# Altium footprint library Board.PcbLib: 21 footprints (part 1 of 2)
Each footprint in its own frame and in the unit in brackets; x right, y up, seen from the top. Pads: shape width x height; smd on the part's side, far side on the other; paste and mask are expansions set on the pad; w line width, h text height; cw(c..) or ccw(c..) is an arc to the next point about the centre after c.
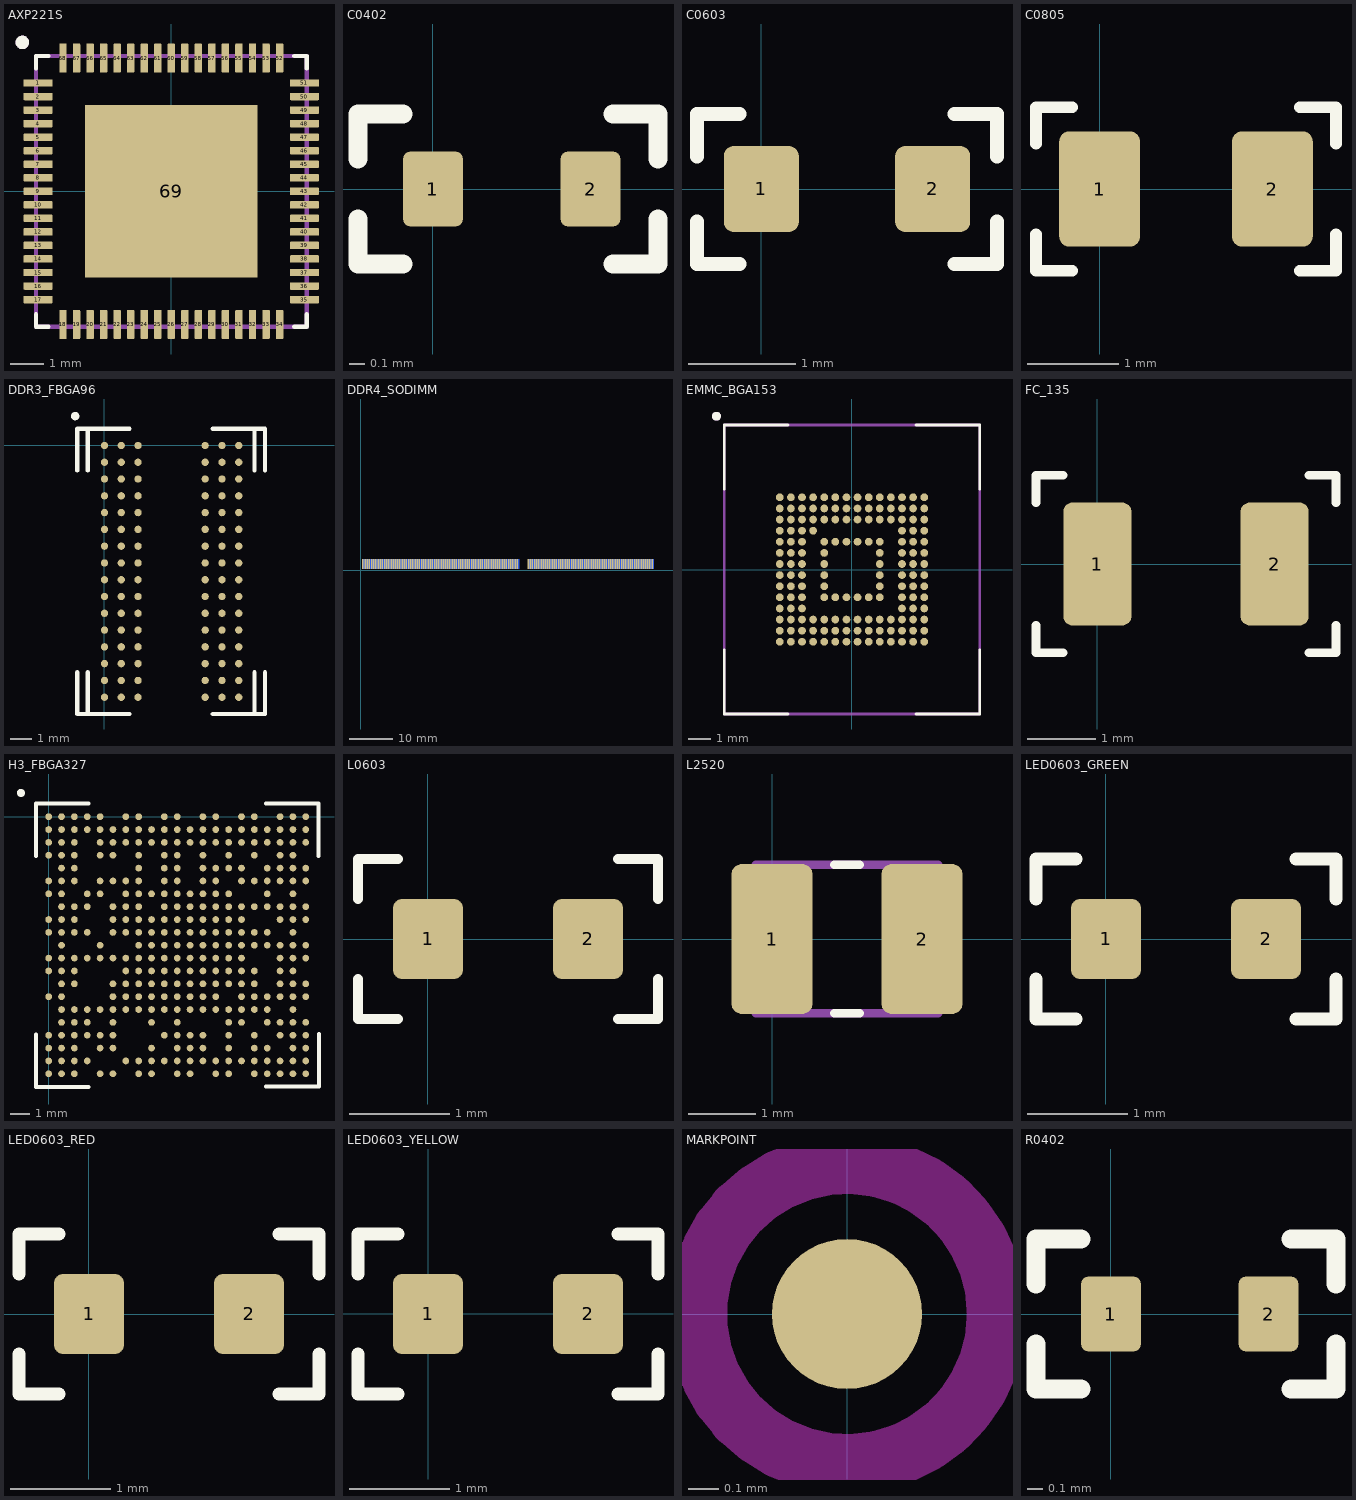
[diagram p0: the footprints below, top view; thin cyan lines are the x and y axes]

## AXP221S [mm]
pads (69):
  rrect25% 0.86x0.22 smd: 1(-3.935,3.2) 2(-3.935,2.8) 3(-3.935,2.4) 4(-3.935,2) 5(-3.935,1.6) 6(-3.935,1.2) 7(-3.935,0.8) 8(-3.935,0.4) 9(-3.935,0) 10(-3.935,-0.4) 11(-3.935,-0.8) 12(-3.935,-1.2) 13(-3.935,-1.6) 14(-3.935,-2) 15(-3.935,-2.4) 16(-3.935,-2.8) 17(-3.935,-3.2) 35(3.935,-3.2) 36(3.935,-2.8) 37(3.935,-2.4) 38(3.935,-2) 39(3.935,-1.6) 40(3.935,-1.2) 41(3.935,-0.8) 42(3.935,-0.4) 43(3.935,0) 44(3.935,0.4) 45(3.935,0.8) 46(3.935,1.2) 47(3.935,1.6) 48(3.935,2) 49(3.935,2.4) 50(3.935,2.8) 51(3.935,3.2)
  rrect25% 0.22x0.86 smd: 18(-3.2,-3.935) 19(-2.8,-3.935) 20(-2.4,-3.935) 21(-2,-3.935) 22(-1.6,-3.935) 23(-1.2,-3.935) 24(-0.8,-3.935) 25(-0.4,-3.935) 26(0,-3.935) 27(0.4,-3.935) 28(0.8,-3.935) 29(1.2,-3.935) 30(1.6,-3.935) 31(2,-3.935) 32(2.4,-3.935) 33(2.8,-3.935) 34(3.2,-3.935) 52(3.2,3.935) 53(2.8,3.935) 54(2.4,3.935) 55(2,3.935) 56(1.6,3.935) 57(1.2,3.935) 58(0.8,3.935) 59(0.4,3.935) 60(0,3.935) 61(-0.4,3.935) 62(-0.8,3.935) 63(-1.2,3.935) 64(-1.6,3.935) 65(-2,3.935) 66(-2.4,3.935) 67(-2.8,3.935) 68(-3.2,3.935)
  rect 5.1x5.1 smd paste-4: 69(0,0)
Top Overlay:
  circle w0.2: c-4.4,4.4 r0.1
  lines w0.127: -4,-3.63 -4,-4 -3.63,-4 ; -4,3.63 -4,4 -3.63,4 ; 3.63,-4 4,-4 4,-3.63 ; 3.63,4 4,4 4,3.63
Top Paste:
  region: -0.47,-2.08 -2.08,-2.08 -2.08,-0.47 -0.47,-0.47
  region: 2.08,-2.08 0.47,-2.08 0.47,-0.47 2.08,-0.47
  region: 2.08,0.47 0.47,0.47 0.47,2.08 2.08,2.08
  region: -0.47,0.47 -2.08,0.47 -2.08,2.08 -0.47,2.08
Mechanical 13:
  circle w0.2: c-4.4,4.4 r0.1
  lines w0.127: -4,-4 -4,4 4,4 4,-4 -4,-4
3D body "QFN68 8x8.STEP": height 0.88, standoff 0, extent -4.001,-4.001 4.001,4.001

## C0402 [mm]
pads (2):
  rrect25% 0.4x0.5 smd: 1(0,0) 2(1.05,0)
Top Overlay:
  lines w0.127: -0.5,-0.2 -0.5,-0.5 -0.2,-0.5 ; -0.5,0.2 -0.5,0.5 -0.2,0.5 ; 1.2,-0.5 1.5,-0.5 1.5,-0.2 ; 1.2,0.5 1.5,0.5 1.5,0.2
3D body "C 0402.STEP": height 0.53, standoff 0.01, extent 0.025,-0.26 1.025,0.26

## C0603 [mm]
pads (2):
  rrect25% 0.7x0.8 smd: 1(0,0) 2(1.6,0)
Top Overlay:
  lines w0.127: -0.6,-0.3 -0.6,-0.7 -0.2,-0.7 ; -0.6,0.3 -0.6,0.7 -0.2,0.7 ; 1.8,-0.7 2.2,-0.7 2.2,-0.3 ; 1.8,0.7 2.2,0.7 2.2,0.3
3D body "C 0603.STEP": height 0.81, standoff -0.01, extent 0,-0.41 1.6,0.41

## C0805 [mil]
pads (2):
  rrect25% 35x50 smd: 1(0,0) 2(74.8,0)
Top Overlay:
  lines w5: -27.56,-19.68 -27.56,-35.43 -11.81,-35.43 ; -27.56,19.68 -27.56,35.43 -11.81,35.43 ; 86.61,-35.43 102.36,-35.43 102.36,-19.68 ; 86.61,35.43 102.36,35.43 102.36,19.68
3D body: height 19.68, standoff 0, extent -3.94,-23.62 78.74,23.62

## DDR3_FBGA96 [mm]
pads (96):
  round 0.35 smd mask+0.05: A1(0,0) A2(0.8,0) A3(1.6,0) A7(4.8,0) A8(5.6,0) A9(6.4,0) B1(0,-0.8) B2(0.8,-0.8) B3(1.6,-0.8) B7(4.8,-0.8) B8(5.6,-0.8) B9(6.4,-0.8) C1(0,-1.6) C2(0.8,-1.6) C3(1.6,-1.6) C7(4.8,-1.6) C8(5.6,-1.6) C9(6.4,-1.6) D1(0,-2.4) D2(0.8,-2.4) D3(1.6,-2.4) D7(4.8,-2.4) D8(5.6,-2.4) D9(6.4,-2.4) E1(0,-3.2) E2(0.8,-3.2) E3(1.6,-3.2) E7(4.8,-3.2) E8(5.6,-3.2) E9(6.4,-3.2) F1(0,-4) F2(0.8,-4) F3(1.6,-4) F7(4.8,-4) F8(5.6,-4) F9(6.4,-4) G1(0,-4.8) G2(0.8,-4.8) G3(1.6,-4.8) G7(4.8,-4.8) G8(5.6,-4.8) G9(6.4,-4.8) H1(0,-5.6) H2(0.8,-5.6) H3(1.6,-5.6) H7(4.8,-5.6) H8(5.6,-5.6) H9(6.4,-5.6) J1(0,-6.4) J2(0.8,-6.4) J3(1.6,-6.4) J7(4.8,-6.4) J8(5.6,-6.4) J9(6.4,-6.4) K1(0,-7.2) K2(0.8,-7.2) K3(1.6,-7.2) K7(4.8,-7.2) K8(5.6,-7.2) K9(6.4,-7.2) L1(0,-8) L2(0.8,-8) L3(1.6,-8) L7(4.8,-8) L8(5.6,-8) L9(6.4,-8) M1(0,-8.8) M2(0.8,-8.8) M3(1.6,-8.8) M7(4.8,-8.8) M8(5.6,-8.8) M9(6.4,-8.8) N1(0,-9.6) N2(0.8,-9.6) N3(1.6,-9.6) N7(4.8,-9.6) N8(5.6,-9.6) N9(6.4,-9.6) P1(0,-10.4) P2(0.8,-10.4) P3(1.6,-10.4) P7(4.8,-10.4) P8(5.6,-10.4) P9(6.4,-10.4) R1(0,-11.2) R2(0.8,-11.2) R3(1.6,-11.2) R7(4.8,-11.2) R8(5.6,-11.2) R9(6.4,-11.2) T1(0,-12) T2(0.8,-12) T3(1.6,-12) T7(4.8,-12) T8(5.6,-12) T9(6.4,-12)
Top Overlay:
  circle w0.2: c-1.4,1.4 r0.1
  lines w0.2: -1.3,-10.813 -1.3,-12.8 -0.8,-12.8 ; -1.3,-1.188 -1.3,0.8 -0.8,0.8 ; -0.8,-10.813 -0.8,-12.8 ; -0.8,-1.188 -0.8,0.8 ; 1.187,-12.8 -0.8,-12.8 ; 1.187,0.8 -0.8,0.8 ; 5.162,-12.8 7.15,-12.8 ; 5.163,0.8 7.15,0.8 ; 7.15,-10.813 7.15,-12.8 ; 7.15,-1.188 7.15,0.8 ; 7.65,-10.813 7.65,-12.8 7.15,-12.8 ; 7.65,-1.188 7.65,0.8 7.15,0.8
3D body "DRAM.STEP": height 0.86, standoff 0, extent -1.3,-13 7.7,1

## DDR4_SODIMM [mm]
pads (260):
  rect 0.35x2.25 smd paste-0.75 mask+0.3: 1(0.474,1.422) 3(0.974,1.422) 5(1.474,1.422) 7(1.974,1.422) 9(2.474,1.422) 11(2.974,1.422) 13(3.474,1.422) 15(3.974,1.422) 17(4.474,1.422) 19(4.974,1.422) 21(5.474,1.422) 23(5.974,1.422) 25(6.474,1.422) 27(6.974,1.422) 29(7.474,1.422) 31(7.974,1.422) 33(8.474,1.422) 35(8.974,1.422) 37(9.474,1.422) 39(9.974,1.422) 41(10.474,1.422) 43(10.974,1.422) 45(11.474,1.422) 47(11.974,1.422) 49(12.474,1.422) 51(12.974,1.422) 53(13.474,1.422) 55(13.974,1.422) 57(14.474,1.422) 59(14.974,1.422) 61(15.474,1.422) 63(15.974,1.422) 65(16.474,1.422) 67(16.974,1.422) 69(17.474,1.422) 71(17.974,1.422) 73(18.474,1.422) 75(18.974,1.422) 77(19.474,1.422) 79(19.974,1.422) 81(20.474,1.422) 83(20.974,1.422) 85(21.474,1.422) 87(21.974,1.422) 89(22.474,1.422) 91(22.974,1.422) 93(23.474,1.422) 95(23.974,1.422) 97(24.474,1.422) 99(24.974,1.422) 101(25.474,1.422) 103(25.974,1.422) 105(26.474,1.422) 107(26.974,1.422) 109(27.474,1.422) 111(27.974,1.422) 113(28.474,1.422) 115(28.974,1.422) 117(29.474,1.422) 119(29.974,1.422) 121(30.474,1.422) 123(30.974,1.422) 125(31.474,1.422) 127(31.974,1.422) 129(32.474,1.422) 131(32.974,1.422) 133(33.474,1.422) 135(33.974,1.422) 137(34.474,1.422) 139(34.974,1.422) 141(35.474,1.422) 143(35.974,1.422) 145(38.474,1.422) 147(38.974,1.422) 149(39.474,1.422) 151(39.974,1.422) 153(40.474,1.422) 155(40.974,1.422) 157(41.474,1.422) 159(41.974,1.422) 161(42.474,1.422) 163(42.974,1.422) 165(43.474,1.422) 167(43.974,1.422) 169(44.474,1.422) 171(44.974,1.422) 173(45.474,1.422) 175(45.974,1.422) 177(46.474,1.422) 179(46.974,1.422) 181(47.474,1.422) 183(47.974,1.422) 185(48.474,1.422) 187(48.974,1.422) 189(49.474,1.422) 191(49.974,1.422) 193(50.474,1.422) 195(50.974,1.422) 197(51.474,1.422) 199(51.974,1.422) 201(52.474,1.422) 203(52.974,1.422) 205(53.474,1.422) 207(53.974,1.422) 209(54.474,1.422) 211(54.974,1.422) 213(55.474,1.422) 215(55.974,1.422) 217(56.474,1.422) 219(56.974,1.422) 221(57.474,1.422) 223(57.974,1.422) 225(58.474,1.422) 227(58.974,1.422) 229(59.474,1.422) 231(59.974,1.422) 233(60.474,1.422) 235(60.974,1.422) 237(61.474,1.422) 239(61.974,1.422) 241(62.474,1.422) 243(62.974,1.422) 245(63.474,1.422) 247(63.974,1.422) 249(64.474,1.422) 251(64.974,1.422) 253(65.474,1.422) 255(65.974,1.422) 257(66.474,1.422) 259(66.974,1.422)
  rect 0.35x2.25 smd far side paste-0.75 mask+0.3: 2(0.724,1.422) 4(1.224,1.422) 6(1.724,1.422) 8(2.224,1.422) 10(2.724,1.422) 12(3.224,1.422) 14(3.724,1.422) 16(4.224,1.422) 18(4.724,1.422) 20(5.224,1.422) 22(5.724,1.422) 24(6.224,1.422) 26(6.724,1.422) 28(7.224,1.422) 30(7.724,1.422) 32(8.224,1.422) 34(8.724,1.422) 36(9.224,1.422) 38(9.724,1.422) 40(10.224,1.422) 42(10.724,1.422) 44(11.224,1.422) 46(11.724,1.422) 48(12.224,1.422) 50(12.724,1.422) 52(13.224,1.422) 54(13.724,1.422) 56(14.224,1.422) 58(14.724,1.422) 60(15.224,1.422) 62(15.724,1.422) 64(16.224,1.422) 66(16.724,1.422) 68(17.224,1.422) 70(17.724,1.422) 72(18.224,1.422) 74(18.724,1.422) 76(19.224,1.422) 78(19.724,1.422) 80(20.224,1.422) 82(20.724,1.422) 84(21.224,1.422) 86(21.724,1.422) 88(22.224,1.422) 90(22.724,1.422) 92(23.224,1.422) 94(23.724,1.422) 96(24.224,1.422) 98(24.724,1.422) 100(25.224,1.422) 102(25.724,1.422) 104(26.224,1.422) 106(26.724,1.422) 108(27.224,1.422) 110(27.724,1.422) 112(28.224,1.422) 114(28.724,1.422) 116(29.224,1.422) 118(29.724,1.422) 120(30.224,1.422) 122(30.724,1.422) 124(31.224,1.422) 126(31.724,1.422) 128(32.224,1.422) 130(32.724,1.422) 132(33.224,1.422) 134(33.724,1.422) 136(34.224,1.422) 138(34.724,1.422) 140(35.224,1.422) 142(35.724,1.422) 144(36.224,1.422) 146(38.724,1.422) 148(39.224,1.422) 150(39.724,1.422) 152(40.224,1.422) 154(40.724,1.422) 156(41.224,1.422) 158(41.724,1.422) 160(42.224,1.422) 162(42.724,1.422) 164(43.224,1.422) 166(43.724,1.422) 168(44.224,1.422) 170(44.724,1.422) 172(45.224,1.422) 174(45.724,1.422) 176(46.224,1.422) 178(46.724,1.422) 180(47.224,1.422) 182(47.724,1.422) 184(48.224,1.422) 186(48.724,1.422) 188(49.224,1.422) 190(49.724,1.422) 192(50.224,1.422) 194(50.724,1.422) 196(51.224,1.422) 198(51.724,1.422) 200(52.224,1.422) 202(52.724,1.422) 204(53.224,1.422) 206(53.724,1.422) 208(54.224,1.422) 210(54.724,1.422) 212(55.224,1.422) 214(55.724,1.422) 216(56.224,1.422) 218(56.724,1.422) 220(57.224,1.422) 222(57.724,1.422) 224(58.224,1.422) 226(58.724,1.422) 228(59.224,1.422) 230(59.724,1.422) 232(60.224,1.422) 234(60.724,1.422) 236(61.224,1.422) 238(61.724,1.422) 240(62.224,1.422) 242(62.724,1.422) 244(63.224,1.422) 246(63.724,1.422) 248(64.224,1.422) 250(64.724,1.422) 252(65.224,1.422) 254(65.724,1.422) 256(66.224,1.422) 258(66.724,1.422) 260(67.224,1.422)

## EMMC_BGA153 [mm]
pads (153):
  round 0.35 smd mask+0.025: A1(-3.25,3.25) A2(-2.75,3.25) A3(-2.25,3.25) A4(-1.75,3.25) A5(-1.25,3.25) A6(-0.75,3.25) A7(-0.25,3.25) A8(0.25,3.25) A9(0.75,3.25) A10(1.25,3.25) A11(1.75,3.25) A12(2.25,3.25) A13(2.75,3.25) A14(3.25,3.25) B1(-3.25,2.75) B2(-2.75,2.75) B3(-2.25,2.75) B4(-1.75,2.75) B5(-1.25,2.75) B6(-0.75,2.75) B7(-0.25,2.75) B8(0.25,2.75) B9(0.75,2.75) B10(1.25,2.75) B11(1.75,2.75) B12(2.25,2.75) B13(2.75,2.75) B14(3.25,2.75) C1(-3.25,2.25) C2(-2.75,2.25) C3(-2.25,2.25) C4(-1.75,2.25) C5(-1.25,2.25) C6(-0.75,2.25) C7(-0.25,2.25) C8(0.25,2.25) C9(0.75,2.25) C10(1.25,2.25) C11(1.75,2.25) C12(2.25,2.25) C13(2.75,2.25) C14(3.25,2.25) D1(-3.25,1.75) D2(-2.75,1.75) D3(-2.25,1.75) D4(-1.75,1.75) D12(2.25,1.75) D13(2.75,1.75) D14(3.25,1.75) E1(-3.25,1.25) E2(-2.75,1.25) E3(-2.25,1.25) E5(-1.25,1.25) E6(-0.75,1.25) E7(-0.25,1.25) E8(0.25,1.25) E9(0.75,1.25) E10(1.25,1.25) E12(2.25,1.25) E13(2.75,1.25) E14(3.25,1.25) F1(-3.25,0.75) F2(-2.75,0.75) F3(-2.25,0.75) F5(-1.25,0.75) F10(1.25,0.75) F12(2.25,0.75) F13(2.75,0.75) F14(3.25,0.75) G1(-3.25,0.25) G2(-2.75,0.25) G3(-2.25,0.25) G5(-1.25,0.25) G10(1.25,0.25) G12(2.25,0.25) G13(2.75,0.25) G14(3.25,0.25) H1(-3.25,-0.25) H2(-2.75,-0.25) H3(-2.25,-0.25) H5(-1.25,-0.25) H10(1.25,-0.25) H12(2.25,-0.25) H13(2.75,-0.25) H14(3.25,-0.25) J1(-3.25,-0.75) J2(-2.75,-0.75) J3(-2.25,-0.75) J5(-1.25,-0.75) J10(1.25,-0.75) J12(2.25,-0.75) J13(2.75,-0.75) J14(3.25,-0.75) K1(-3.25,-1.25) K2(-2.75,-1.25) K3(-2.25,-1.25) K5(-1.25,-1.25) K6(-0.75,-1.25) K7(-0.25,-1.25) K8(0.25,-1.25) K9(0.75,-1.25) K10(1.25,-1.25) K12(2.25,-1.25) K13(2.75,-1.25) K14(3.25,-1.25) L1(-3.25,-1.75) L2(-2.75,-1.75) L3(-2.25,-1.75) L12(2.25,-1.75) L13(2.75,-1.75) L14(3.25,-1.75) M1(-3.25,-2.25) M2(-2.75,-2.25) M3(-2.25,-2.25) M4(-1.75,-2.25) M5(-1.25,-2.25) M6(-0.75,-2.25) M7(-0.25,-2.25) M8(0.25,-2.25) M9(0.75,-2.25) M10(1.25,-2.25) M11(1.75,-2.25) M12(2.25,-2.25) M13(2.75,-2.25) M14(3.25,-2.25) N1(-3.25,-2.75) N2(-2.75,-2.75) N3(-2.25,-2.75) N4(-1.75,-2.75) N5(-1.25,-2.75) N6(-0.75,-2.75) N7(-0.25,-2.75) N8(0.25,-2.75) N9(0.75,-2.75) N10(1.25,-2.75) N11(1.75,-2.75) N12(2.25,-2.75) N13(2.75,-2.75) N14(3.25,-2.75) P1(-3.25,-3.25) P2(-2.75,-3.25) P3(-2.25,-3.25) P4(-1.75,-3.25) P5(-1.25,-3.25) P6(-0.75,-3.25) P7(-0.25,-3.25) P8(0.25,-3.25) P9(0.75,-3.25) P10(1.25,-3.25) P11(1.75,-3.25) P12(2.25,-3.25) P13(2.75,-3.25) P14(3.25,-3.25)
Top Overlay:
  circle w0.2: c-6.1,6.9 r0.1
  lines w0.127: -5.75,-3.625 -5.75,-6.5 -2.875,-6.5 ; -5.75,3.625 -5.75,6.5 -2.875,6.5 ; 2.875,-6.5 5.75,-6.5 5.75,-3.625 ; 2.875,6.5 5.75,6.5 5.75,3.625
Mechanical 13:
  circle w0.2: c-6.1,6.9 r0.1
  lines w0.127: -5.75,-6.5 -5.75,6.5 5.75,6.5 5.75,-6.5 -5.75,-6.5
3D body "step_temp.STEP": height 1, standoff 0, extent -5.75,-6.5 5.75,6.5

## FC_135 [mm]
pads (2):
  rrect25% 1x1.8 smd: 1(0,0) 2(2.6,0)
Top Overlay:
  lines w0.127: -0.9,-0.9 -0.9,-1.3 -0.5,-1.3 ; -0.9,0.9 -0.9,1.3 -0.5,1.3 ; 3.1,-1.3 3.5,-1.3 3.5,-0.9 ; 3.1,1.3 3.5,1.3 3.5,0.9
3D body "OSC 3215-2.STEP": height 0.61, standoff -0.01, extent -0.3,-0.75 2.9,0.75

## H3_FBGA327 [mm]
pads (347):
  round 0.34 smd mask+0.05: A1(0,0) A2(0.65,0) A3(1.3,0) A4(1.95,0) A5(2.6,0) A7(3.9,0) A8(4.55,0) A10(5.85,0) A11(6.5,0) A13(7.8,0) A14(8.45,0) A16(9.75,0) A17(10.4,0) A19(11.7,0) A20(12.35,0) A21(13,0) AA1(0,-13) AA2(0.65,-13) AA3(1.3,-13) AA5(2.6,-13) AA6(3.25,-13) AA8(4.55,-13) AA9(5.2,-13) AA11(6.5,-13) AA12(7.15,-13) AA14(8.45,-13) AA15(9.1,-13) AA17(10.4,-13) AA18(11.05,-13) AA19(11.7,-13) AA20(12.35,-13) AA21(13,-13) B1(0,-0.65) B2(0.65,-0.65) B3(1.3,-0.65) B4(1.95,-0.65) B5(2.6,-0.65) B6(3.25,-0.65) B7(3.9,-0.65) B8(4.55,-0.65) B9(5.2,-0.65) B10(5.85,-0.65) B11(6.5,-0.65) B12(7.15,-0.65) B13(7.8,-0.65) B14(8.45,-0.65) B15(9.1,-0.65) B16(9.75,-0.65) B17(10.4,-0.65) B18(11.05,-0.65) B19(11.7,-0.65) B20(12.35,-0.65) B21(13,-0.65) C1(0,-1.3) C2(0.65,-1.3) C3(1.3,-1.3) C5(2.6,-1.3) C6(3.25,-1.3) C7(3.9,-1.3) C8(4.55,-1.3) C9(5.2,-1.3) C10(5.85,-1.3) C11(6.5,-1.3) C12(7.15,-1.3) C13(7.8,-1.3) C14(8.45,-1.3) C15(9.1,-1.3) C16(9.75,-1.3) C17(10.4,-1.3) C18(11.05,-1.3) C19(11.7,-1.3) C20(12.35,-1.3) C21(13,-1.3) D1(0,-1.95) D2(0.65,-1.95) D3(1.3,-1.95) D5(2.6,-1.95) D6(3.25,-1.95) D8(4.55,-1.95) D10(5.85,-1.95) D11(6.5,-1.95) D13(7.8,-1.95) D15(9.1,-1.95) D17(10.4,-1.95) D19(11.7,-1.95) D20(12.35,-1.95) E2(0.65,-2.6) E3(1.3,-2.6) E8(4.55,-2.6) E10(5.85,-2.6) E11(6.5,-2.6) E13(7.8,-2.6) E14(8.45,-2.6) E15(9.1,-2.6) E16(9.75,-2.6) E18(11.05,-2.6) E19(11.7,-2.6) E20(12.35,-2.6) E21(13,-2.6) F1(0,-3.25) F2(0.65,-3.25) F3(1.3,-3.25) F5(2.6,-3.25) F6(3.25,-3.25) F7(3.9,-3.25) F8(4.55,-3.25) F10(5.85,-3.25) F11(6.5,-3.25) F13(7.8,-3.25) F14(8.45,-3.25) F16(9.75,-3.25) F17(10.4,-3.25) F18(11.05,-3.25) F19(11.7,-3.25) F20(12.35,-3.25) F21(13,-3.25) G1(0,-3.9) G2(0.65,-3.9) G4(1.95,-3.9) G5(2.6,-3.9) G7(3.9,-3.9) G8(4.55,-3.9) G9(5.2,-3.9) G10(5.85,-3.9) G11(6.5,-3.9) G12(7.15,-3.9) G13(7.8,-3.9) G14(8.45,-3.9) G15(9.1,-3.9) G18(11.05,-3.9) G20(12.35,-3.9) H2(0.65,-4.55) H3(1.3,-4.55) H4(1.95,-4.55) H6(3.25,-4.55) H7(3.9,-4.55) H8(4.55,-4.55) H10(5.85,-4.55) H11(6.5,-4.55) H12(7.15,-4.55) H13(7.8,-4.55) H14(8.45,-4.55) H15(9.1,-4.55) H16(9.75,-4.55) H17(10.4,-4.55) H18(11.05,-4.55) H19(11.7,-4.55) H20(12.35,-4.55) H21(13,-4.55) J1(0,-5.2) J2(0.65,-5.2) J3(1.3,-5.2) J6(3.25,-5.2) J7(3.9,-5.2) J8(4.55,-5.2) J9(5.2,-5.2) J10(5.85,-5.2) J11(6.5,-5.2) J12(7.15,-5.2) J13(7.8,-5.2) J14(8.45,-5.2) J15(9.1,-5.2) J16(9.75,-5.2) J19(11.7,-5.2) J20(12.35,-5.2) J21(13,-5.2) K1(0,-5.85) K2(0.65,-5.85) K3(1.3,-5.85) K4(1.95,-5.85) K6(3.25,-5.85) K7(3.9,-5.85) K8(4.55,-5.85) K9(5.2,-5.85) K10(5.85,-5.85) K11(6.5,-5.85) K12(7.15,-5.85) K13(7.8,-5.85) K14(8.45,-5.85) K15(9.1,-5.85) K16(9.75,-5.85) K17(10.4,-5.85) K18(11.05,-5.85) K20(12.35,-5.85) L2(0.65,-6.5) L5(2.6,-6.5) L8(4.55,-6.5) L9(5.2,-6.5) L10(5.85,-6.5) L11(6.5,-6.5) L12(7.15,-6.5) L13(7.8,-6.5) L14(8.45,-6.5) L15(9.1,-6.5) L16(9.75,-6.5) L17(10.4,-6.5) L18(11.05,-6.5) L19(11.7,-6.5) L20(12.35,-6.5) L21(13,-6.5) M1(0,-7.15) M2(0.65,-7.15) M3(1.3,-7.15) M4(1.95,-7.15) M5(2.6,-7.15) M6(3.25,-7.15) M7(3.9,-7.15) M8(4.55,-7.15) M9(5.2,-7.15) M10(5.85,-7.15) M11(6.5,-7.15) M12(7.15,-7.15) M13(7.8,-7.15) M14(8.45,-7.15) M15(9.1,-7.15) M16(9.75,-7.15) M19(11.7,-7.15) M20(12.35,-7.15) M21(13,-7.15) N1(0,-7.8) N2(0.65,-7.8) N3(1.3,-7.8) N7(3.9,-7.8) N8(4.55,-7.8) N9(5.2,-7.8) N10(5.85,-7.8) N11(6.5,-7.8) N12(7.15,-7.8) N13(7.8,-7.8) N14(8.45,-7.8) N15(9.1,-7.8) N16(9.75,-7.8) N17(10.4,-7.8) N19(11.7,-7.8) N20(12.35,-7.8) P2(0.65,-8.45) P3(1.3,-8.45) P6(3.25,-8.45) P7(3.9,-8.45) P8(4.55,-8.45) P9(5.2,-8.45) P10(5.85,-8.45) P11(6.5,-8.45) P12(7.15,-8.45) P13(7.8,-8.45) P14(8.45,-8.45) P15(9.1,-8.45) P16(9.75,-8.45) P17(10.4,-8.45) P19(11.7,-8.45) P20(12.35,-8.45) P21(13,-8.45) R1(0,-9.1) R2(0.65,-9.1) R6(3.25,-9.1) R7(3.9,-9.1) R8(4.55,-9.1) R9(5.2,-9.1) R10(5.85,-9.1) R11(6.5,-9.1) R12(7.15,-9.1) R13(7.8,-9.1) R14(8.45,-9.1) R16(9.75,-9.1) R17(10.4,-9.1) R18(11.05,-9.1) R19(11.7,-9.1) R20(12.35,-9.1) R21(13,-9.1) T2(0.65,-9.75) T3(1.3,-9.75) T4(1.95,-9.75) T5(2.6,-9.75) T6(3.25,-9.75) T7(3.9,-9.75) T8(4.55,-9.75) T9(5.2,-9.75) T10(5.85,-9.75) T11(6.5,-9.75) T12(7.15,-9.75) T13(7.8,-9.75) T14(8.45,-9.75) T15(9.1,-9.75) T16(9.75,-9.75) T17(10.4,-9.75) T18(11.05,-9.75) T20(12.35,-9.75) U2(0.65,-10.4) U3(1.3,-10.4) U4(1.95,-10.4) U6(3.25,-10.4) U9(5.2,-10.4) U11(6.5,-10.4) U15(9.1,-10.4) U16(9.75,-10.4) U18(11.05,-10.4) U19(11.7,-10.4) U20(12.35,-10.4) U21(13,-10.4) V1(0,-11.05) V2(0.65,-11.05) V3(1.3,-11.05) V4(1.95,-11.05) V5(2.6,-11.05) V6(3.25,-11.05) V10(5.85,-11.05) V11(6.5,-11.05) V12(7.15,-11.05) V13(7.8,-11.05) V15(9.1,-11.05) V17(10.4,-11.05) V19(11.7,-11.05) V20(12.35,-11.05) V21(13,-11.05) W1(0,-11.7) W2(0.65,-11.7) W3(1.3,-11.7) W5(2.6,-11.7) W6(3.25,-11.7) W9(5.2,-11.7) W11(6.5,-11.7) W12(7.15,-11.7) W13(7.8,-11.7) W15(9.1,-11.7) W17(10.4,-11.7) W18(11.05,-11.7) W20(12.35,-11.7) W21(13,-11.7) Y1(0,-12.35) Y2(0.65,-12.35) Y3(1.3,-12.35) Y4(1.95,-12.35) Y7(3.9,-12.35) Y8(4.55,-12.35) Y9(5.2,-12.35) Y10(5.85,-12.35) Y11(6.5,-12.35) Y12(7.15,-12.35) Y13(7.8,-12.35) Y14(8.45,-12.35) Y15(9.1,-12.35) Y16(9.75,-12.35) Y17(10.4,-12.35) Y18(11.05,-12.35) Y19(11.7,-12.35) Y20(12.35,-12.35) Y21(13,-12.35)
Top Overlay:
  circle w0.2: c-1.4,1.2 r0.1
  lines w0.2: -0.65,-13.65 -0.65,-11 ; -0.65,-2 -0.65,0.65 ; -0.636,-13.669 2.014,-13.669 ; -0.631,0.664 2.019,0.664 ; 10.986,0.669 13.636,0.669 ; 11,-13.65 13.669,-13.65 13.669,-10.986 ; 13.65,-2 13.65,0.65
Top Paste:
  text "1 2 3 4 5 6 7 8 9 0 1 2 3 4 5 6 7 8 9 0 1" at -0.127,1.016 h0.33
  text "A B C D E F G H J K L M N P R T U V W Y AA" at -1.397,0.127 h0.33
3D body "ALLWINNER_H3.STEP": height 0.9, standoff 0, extent -0.5,-13.5 13.5,0.5

## L0603 [mm]
pads (2):
  rrect25% 0.7x0.8 smd: 1(0,0) 2(1.6,0)
Top Overlay:
  lines w0.1: -0.7,-0.4 -0.7,-0.8 -0.3,-0.8 ; -0.7,0.4 -0.7,0.8 -0.3,0.8 ; 1.9,-0.8 2.3,-0.8 2.3,-0.4 ; 1.9,0.8 2.3,0.8 2.3,0.4
3D body "0603.STEP": height 0.8, standoff 0, extent -0.023,-0.4 1.577,0.4

## L2520 [mm]
pads (2):
  rrect25% 1.2x2.22 smd: 1(0,0) 2(2.22,0)
Top Overlay:
  lines w0.127: 0.92,-1.1 1.3,-1.1 ; 0.92,1.1 1.3,1.1
Mechanical 13:
  lines w0.127: -0.24,-1.1 -0.24,1.1 2.46,1.1 2.46,-1.1 -0.24,-1.1
3D body "step_temp.STEP": height 1, standoff 0, extent -0.14,-1 2.36,1

## LED0603_GREEN [mm]
pads (2):
  rrect25% 0.7x0.8 smd: 1(0,0) 2(1.6,0)
Top Overlay:
  lines w0.127: -0.7,-0.4 -0.7,-0.8 -0.3,-0.8 ; -0.7,0.4 -0.7,0.8 -0.3,0.8 ; 1.9,-0.8 2.3,-0.8 2.3,-0.4 ; 1.9,0.8 2.3,0.8 2.3,0.4
3D body "LED 0603玻璃罩.STEP": height 0.61, standoff 0.21, extent 0.225,-0.375 1.425,0.425
3D body "LED 0603-G.STEP": height 0.47, standoff 0, extent 0.025,-0.376 1.625,0.426

## LED0603_RED [mm]
pads (2):
  rrect25% 0.7x0.8 smd: 1(0,0) 2(1.6,0)
Top Overlay:
  lines w0.127: -0.7,-0.4 -0.7,-0.8 -0.3,-0.8 ; -0.7,0.4 -0.7,0.8 -0.3,0.8 ; 1.9,-0.8 2.3,-0.8 2.3,-0.4 ; 1.9,0.8 2.3,0.8 2.3,0.4
3D body "LED 0603玻璃罩.STEP": height 0.61, standoff 0.21, extent 0.225,-0.375 1.425,0.425
3D body "LED 0603-G.STEP": height 0.47, standoff 0, extent 0.025,-0.376 1.625,0.426

## LED0603_YELLOW [mm]
pads (2):
  rrect25% 0.7x0.8 smd: 1(0,0) 2(1.6,0)
Top Overlay:
  lines w0.127: -0.7,-0.4 -0.7,-0.8 -0.3,-0.8 ; -0.7,0.4 -0.7,0.8 -0.3,0.8 ; 1.9,-0.8 2.3,-0.8 2.3,-0.4 ; 1.9,0.8 2.3,0.8 2.3,0.4
3D body "LED 0603玻璃罩.STEP": height 0.61, standoff 0.21, extent 0.225,-0.375 1.425,0.425
3D body "LED 0603-G.STEP": height 0.47, standoff 0, extent 0.025,-0.376 1.625,0.426

## MARKPOINT [mm]
pads (1):
  round 0.5 smd: ""(0,0)
Top Layer keep-out:
  circle w0.2: c0,0 r0.5

## R0402 [mm]
pads (2):
  rrect25% 0.4x0.5 smd: 1(0,0) 2(1.05,0)
Top Overlay:
  lines w0.127: -0.5,-0.2 -0.5,-0.5 -0.2,-0.5 ; -0.5,0.2 -0.5,0.5 -0.2,0.5 ; 1.2,-0.5 1.5,-0.5 1.5,-0.2 ; 1.2,0.5 1.5,0.5 1.5,0.2
3D body "R 0402.STEP": height 0.3, standoff 0, extent 0,-0.25 1,0.25